# Altium footprint library SOT223_SC73.PcbLib: 1 footprints
Each footprint in its own frame and in the unit in brackets; x right, y up, seen from the top. Pads: shape width x height; smd on the part's side, far side on the other; paste and mask are expansions set on the pad; w line width, h text height; cw(c..) or ccw(c..) is an arc to the next point about the centre after c.
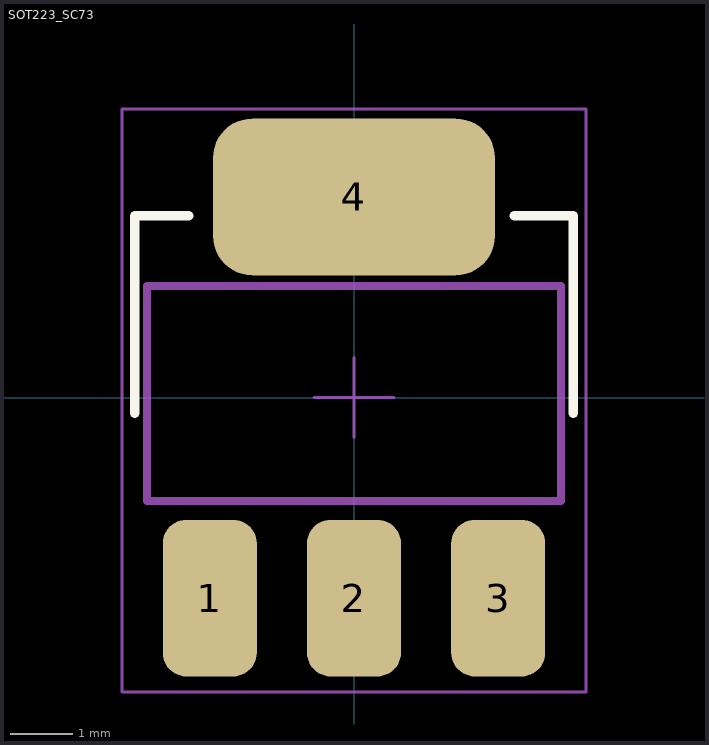
[diagram p0: the footprint, top view; thin cyan lines are the x and y axes]

## SOT223_SC73 [mm]
pads (4):
  rrect50% 1.5x2.5 smd: 1(-2.3,-3.2) 2(0,-3.2) 3(2.3,-3.2)
  rrect50% 4.5x2.5 smd: 4(0,3.2)
Top Overlay:
  lines w0.152: -3.5,-0.25 -3.5,2.9 -2.636,2.9 ; 2.56,2.9 3.5,2.9 3.5,-0.25
Top Assembly:
  lines w0.127: -3.302,-1.651 3.302,-1.651 3.302,1.778 -3.302,1.778 -3.302,-1.651
Top Courtyard:
  lines w0.05: -0.635,0 0.635,0 ; 0,-0.635 0,0.635 ; -3.7,-4.7 3.7,-4.7 3.7,4.6 -3.7,4.6 -3.7,-4.7
3D body "SOT223-4.STEP": height 1.8, standoff 0, extent -3.364,-3.548 3.336,3.752